# Altium footprint library Metal Screening Box.PcbLib: 38 footprints (part 3 of 3)
Each footprint in its own frame and in the unit in brackets; x right, y up, seen from the top. Pads: shape width x height; smd on the part's side, far side on the other; paste and mask are expansions set on the pad; w line width, h text height; cw(c..) or ccw(c..) is an arc to the next point about the centre after c.
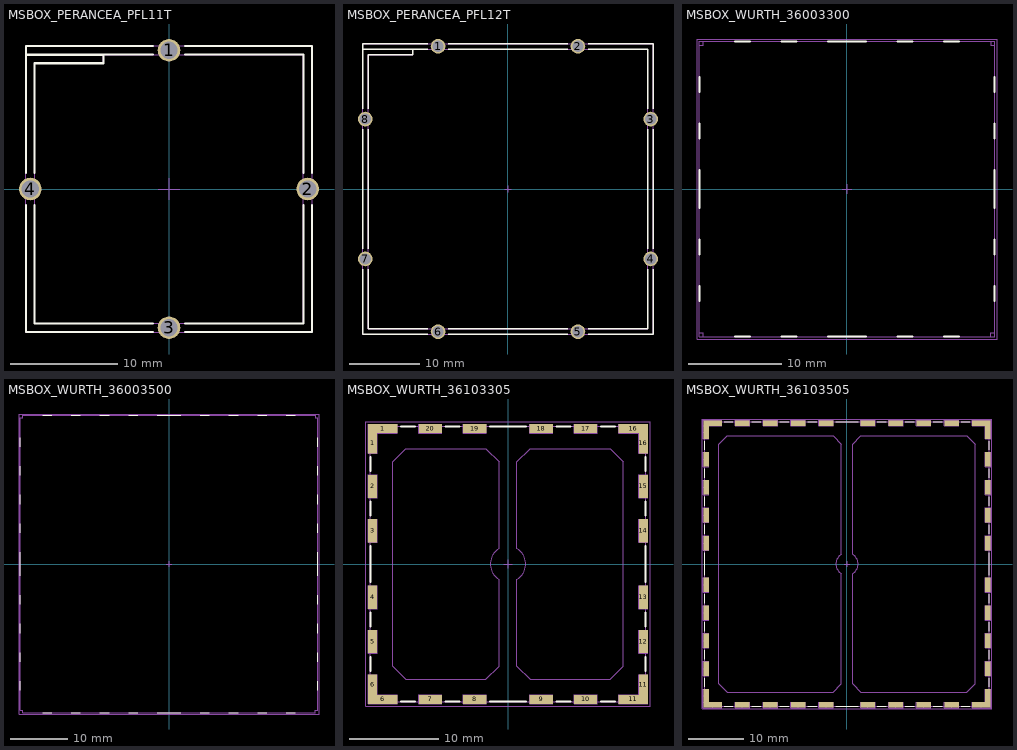
[diagram p2: the footprints below, top view; thin cyan lines are the x and y axes]

## MSBOX_PERANCEA_PFL11T [mm] "Metal Screening Box, Internal dimensions L25 x W25 x H10mm, Overall Size 30x30x11mm"
height 11
pads (4):
  round 2.1 hole 1.6: 1(0,12.9) 2(12.9,0) 3(0,-12.9) 4(-12.9,0)
Top Overlay:
  lines w0.2: -13.3,-1.5 -13.3,-13.3 -1.5,-13.3 ; -13.3,1.5 -13.3,12.45 -6.1,12.45 -6.1,11.7 -12.5,11.7 -12.5,1.5 ; -12.5,-1.5 -12.5,-12.5 -1.5,-12.5 ; -1.5,12.5 -13.3,12.5 ; -1.5,13.3 -13.3,13.3 ; 1.5,-13.3 13.3,-13.3 13.3,-1.5 ; 1.5,-12.5 12.5,-12.5 12.5,-1.5 ; 1.5,12.5 12.5,12.5 12.5,1.5 ; 1.5,13.3 13.3,13.3 13.3,1.5 ; -13.3,12.5 -13.3,13.3 ; -13.3,12.5 -13.3,13.3
Mechanical 8:
  lines w0.1: -13.9,0 -12.9,0 ; -12.9,-1 -12.9,0 ; -12.9,1 -12.9,0 ; -11.9,0 -12.9,0 ; -1,-12.9 0,-12.9 ; -1,0 0,0 ; -1,12.9 0,12.9 ; 0,-13.9 0,-12.9 ; 0,-11.9 0,-12.9 ; 0,-1 0,0 ; 0,1 0,0 ; 0,11.9 0,12.9 ; 0,13.9 0,12.9 ; 1,-12.9 0,-12.9 ; 1,0 0,0 ; 1,12.9 0,12.9 ; 11.9,0 12.9,0 ; 12.9,-1 12.9,0 ; 12.9,1 12.9,0 ; 13.9,0 12.9,0
Mechanical 14:
  lines w0.1: -13.3,12.5 -13.3,13.3 ; -13.3,12.5 12.5,12.5 12.5,-12.5 -12.5,-12.5 -12.5,11.7 -6.1,11.7 -6.1,12.45 -13.3,12.45 -13.3,-13.3 13.3,-13.3 13.3,13.3 -13.3,13.3 ; -13.3,12.5 -13.3,13.3
3D body "MSBOX_PERANCEA_PFL11T.stp": height 11, standoff -2.25, extent -14.72,-14.72 14.72,14.709

## MSBOX_PERANCEA_PFL12T [mm] "Metal Screening Box, Internal dimensions L40 x W40 x H15mm, Overall Size 45x45x16mm"
height 16
pads (8):
  round 2.1 hole 1.6: 1(-10,20.4) 2(10,20.4) 3(20.4,10) 4(20.4,-10) 5(10,-20.4) 6(-10,-20.4) 7(-20.4,-10) 8(-20.4,10)
Top Overlay:
  lines w0.2: -20.8,-11.446 -20.8,-20.8 -11.446,-20.8 ; -20.8,-8.554 -20.8,8.554 ; -20.8,11.446 -20.8,20.8 -11.446,20.8 ; -20.8,19.95 -13.6,19.95 -13.6,19.2 -20,19.2 -20,11.446 ; -20.8,20 -11.446,20 ; -20,-11.446 -20,-20 -11.446,-20 ; -20,-8.554 -20,8.554 ; -8.554,-20.8 8.554,-20.8 ; -8.554,-20 8.554,-20 ; -8.554,20 8.554,20 ; -8.554,20.8 8.554,20.8 ; 11.446,-20.8 20.8,-20.8 20.8,-11.446 ; 11.446,-20 20,-20 20,-11.446 ; 11.446,20 20,20 20,11.446 ; 11.446,20.8 20.8,20.8 20.8,11.446 ; 20,-8.554 20,8.554 ; 20.8,-8.554 20.8,8.554
Mechanical 8:
  lines w0.1: -0.5,0 0,0 ; 0,-0.5 0,0 ; 0,0.5 0,0 ; 0.5,0 0,0 ; -20.4,-10 -20.4,-10.5 -20.4,-10 ; -20.4,-10 -19.9,-10 -20.4,-10 ; -20.4,-10 -20.4,-9.5 -20.4,-10 ; -20.4,-10 -20.9,-10 -20.4,-10 ; -20.4,10 -20.4,9.5 -20.4,10 ; -20.4,10 -19.9,10 -20.4,10 ; -20.4,10 -20.4,10.5 -20.4,10 ; -20.4,10 -20.9,10 -20.4,10 ; -10,-20.4 -10,-20.9 -10,-20.4 ; -10,-20.4 -9.5,-20.4 -10,-20.4 ; -10,-20.4 -10,-19.9 -10,-20.4 ; -10,-20.4 -10.5,-20.4 -10,-20.4 ; -10,20.4 -10,19.9 -10,20.4 ; -10,20.4 -9.5,20.4 -10,20.4 ; -10,20.4 -10,20.9 -10,20.4 ; -10,20.4 -10.5,20.4 -10,20.4 ; 10,-20.4 10,-20.9 10,-20.4 ; 10,-20.4 10.5,-20.4 10,-20.4 ; 10,-20.4 10,-19.9 10,-20.4 ; 10,-20.4 9.5,-20.4 10,-20.4 ; 10,20.4 10,19.9 10,20.4 ; 10,20.4 10.5,20.4 10,20.4 ; 10,20.4 10,20.9 10,20.4 ; 10,20.4 9.5,20.4 10,20.4 ; 20.4,-10 20.4,-10.5 20.4,-10 ; 20.4,-10 20.9,-10 20.4,-10 ; 20.4,-10 20.4,-9.5 20.4,-10 ; 20.4,-10 19.9,-10 20.4,-10 ; 20.4,10 20.4,9.5 20.4,10 ; 20.4,10 20.9,10 20.4,10 ; 20.4,10 20.4,10.5 20.4,10 ; 20.4,10 19.9,10 20.4,10
Mechanical 14:
  lines w0.1: -20.8,19.95 -13.6,19.95 -13.6,19.2 -20,19.2 -20,-20 20,-20 20,20 -20.8,20 ; -20.8,-20.8 -20.8,20.8 20.8,20.8 20.8,-20.8 -20.8,-20.8
3D body "MSBOX_PERANCEA_PFL12T.stp": height 15.8, standoff -2.25, extent -22.22,-22.22 22.22,22.22

## MSBOX_WURTH_36003300 [mm] "Top Cover For 30 x 30mm WE-SHC Shielding Cabinet"
height 3.1
Top Overlay:
  lines w0.2: -15.9,-12.05 -15.9,-10.45 ; -15.9,-7.05 -15.9,-5.45 ; -15.9,-2.05 -15.9,2.05 ; -15.9,5.45 -15.9,7.05 ; -15.9,10.45 -15.9,12.05 ; -12.05,-15.9 -10.45,-15.9 ; -12.05,15.9 -10.45,15.9 ; -7.05,-15.9 -5.45,-15.9 ; -7.05,15.9 -5.45,15.9 ; -2.05,-15.9 2.05,-15.9 ; -2.05,15.9 2.05,15.9 ; 5.45,-15.9 7.05,-15.9 ; 5.45,15.9 7.05,15.9 ; 10.45,-15.9 12.05,-15.9 ; 10.45,15.9 12.05,15.9 ; 15.9,-12.05 15.9,-10.45 ; 15.9,-7.05 15.9,-5.45 ; 15.9,-2.05 15.9,2.05 ; 15.9,5.45 15.9,7.05 ; 15.9,10.45 15.9,12.05
Mechanical 8:
  lines w0.1: -0.5,0 0,0 ; 0,-0.5 0,0 ; 0,0.5 0,0 ; 0.5,0 0,0
Mechanical 14:
  lines w0.1: -15.9,-15.5 -15.5,-15.5 -15.5,-15.9 ; -15.9,15.5 -15.5,15.5 -15.5,15.9 ; 15.5,-15.9 15.5,-15.5 15.9,-15.5 ; 15.5,15.9 15.5,15.5 15.9,15.5 ; -15.9,-15.9 15.9,-15.9 15.9,15.9 -15.9,15.9 -15.9,-15.9
Mechanical 15:
  lines w0.05: -16.15,-16.15 16.15,-16.15 16.15,16.15 -16.15,16.15 -16.15,-16.15
3D body "MSBOX_WURTH_36003300.stp": height 3.9, standoff 0.6, extent -15.9,-15.9 15.9,15.9

## MSBOX_WURTH_36003500 [mm] "Top Cover For 50 x 50mm WE-SHC Shielding Cabinet"
height 3.1
Top Overlay:
  lines w0.2: -25.9,-22.05 -25.9,-20.45 ; -25.9,-17.05 -25.9,-15.45 ; -25.9,-12.05 -25.9,-10.45 ; -25.9,-7.05 -25.9,-5.45 ; -25.9,-2.05 -25.9,2.05 ; -25.9,5.45 -25.9,7.05 ; -25.9,10.45 -25.9,12.05 ; -25.9,15.45 -25.9,17.05 ; -25.9,20.45 -25.9,22.05 ; -22.05,-25.9 -20.45,-25.9 ; -22.05,25.9 -20.45,25.9 ; -17.05,-25.9 -15.45,-25.9 ; -17.05,25.9 -15.45,25.9 ; -12.05,-25.9 -10.45,-25.9 ; -12.05,25.9 -10.45,25.9 ; -7.05,-25.9 -5.45,-25.9 ; -7.05,25.9 -5.45,25.9 ; -2.05,-25.9 2.05,-25.9 ; -2.05,25.9 2.05,25.9 ; 5.45,-25.9 7.05,-25.9 ; 5.45,25.9 7.05,25.9 ; 10.45,-25.9 12.05,-25.9 ; 10.45,25.9 12.05,25.9 ; 15.45,-25.9 17.05,-25.9 ; 15.45,25.9 17.05,25.9 ; 20.45,-25.9 22.05,-25.9 ; 20.45,25.9 22.05,25.9 ; 25.9,-22.05 25.9,-20.45 ; 25.9,-17.05 25.9,-15.45 ; 25.9,-12.05 25.9,-10.45 ; 25.9,-7.05 25.9,-5.45 ; 25.9,-2.05 25.9,2.05 ; 25.9,5.45 25.9,7.05 ; 25.9,10.45 25.9,12.05 ; 25.9,15.45 25.9,17.05 ; 25.9,20.45 25.9,22.05
Mechanical 8:
  lines w0.1: -0.5,0 0,0 ; 0,-0.5 0,0 ; 0,0.5 0,0 ; 0.5,0 0,0
Mechanical 14:
  lines w0.1: -25.9,-25.5 -25.5,-25.5 -25.5,-25.9 25.5,-25.9 25.5,-25.5 25.9,-25.5 25.9,25.5 25.5,25.5 25.5,25.9 -25.5,25.9 -25.5,25.5 -25.9,25.5 -25.9,-25.5
Mechanical 15:
  lines w0.05: -26.15,-26.15 26.15,-26.15 26.15,26.15 -26.15,26.15 -26.15,-26.15
3D body "MSBOX_WURTH_36003500.stp": height 3.9, standoff 0.6, extent -25.9,-25.9 25.9,25.9

## MSBOX_WURTH_36103305 [mm] "Shielding Cabinet SMD-Frame WE-SHC, Internal Dimensions 30 x 30mm"
height 3.1
pads (24):
  rect 1x2.3 smd: 1(-15.25,13.6) 6(-15.25,-13.6) 11(15.25,-13.6) 16(15.25,13.6)
  rect 3.3x1 smd: 1(-14.1,15.25) 6(-14.1,-15.25) 11(14.1,-15.25) 16(14.1,15.25)
  rect 1x2.6 smd: 2(-15.25,8.75) 3(-15.25,3.75) 4(-15.25,-3.75) 5(-15.25,-8.75) 12(15.25,-8.75) 13(15.25,-3.75) 14(15.25,3.75) 15(15.25,8.75)
  rect 2.6x1 smd: 7(-8.75,-15.25) 8(-3.75,-15.25) 9(3.75,-15.25) 10(8.75,-15.25) 17(8.75,15.25) 18(3.75,15.25) 19(-3.75,15.25) 20(-8.75,15.25)
Top Overlay:
  lines w0.2: -15.5,-12.05 -15.5,-10.45 ; -15.5,-7.05 -15.5,-5.45 ; -15.5,-2.05 -15.5,2.05 ; -15.5,5.45 -15.5,7.05 ; -15.5,10.45 -15.5,12.05 ; -12.05,-15.5 -10.45,-15.5 ; -12.05,15.5 -10.45,15.5 ; -7.05,-15.5 -5.45,-15.5 ; -7.05,15.5 -5.45,15.5 ; -2.05,-15.5 2.05,-15.5 ; -2.05,15.5 2.05,15.5 ; 5.45,-15.5 7.05,-15.5 ; 5.45,15.5 7.05,15.5 ; 10.45,-15.5 12.05,-15.5 ; 10.45,15.5 12.05,15.5 ; 15.5,-12.05 15.5,-10.45 ; 15.5,-7.05 15.5,-5.45 ; 15.5,-2.05 15.5,2.05 ; 15.5,5.45 15.5,7.05 ; 15.5,10.45 15.5,12.05
Mechanical 8:
  drawing of 208 lines, arcs and shapes, not listed
Mechanical 14:
  lines w0.1: -15.5,-15.5 -15.5,15.5 15.5,15.5 15.5,-15.5 -15.5,-15.5
Mechanical 15:
  lines w0.05: -16,-16 16,-16 16,16 -16,16 -16,-16
3D body "MSBOX_WURTH_36103305.stp": height 3.5, standoff 0, extent -15.5,-15.5 15.5,15.5

## MSBOX_WURTH_36103505 [mm] "Shielding Cabinet SMD-Frame WE-SHC, Internal Dimensions 50 x 50mm"
height 3.1
pads (40):
  rect 1x2.3 smd: 1(-25.25,23.6) 10(-25.25,-23.6) 19(25.25,-23.6) 28(25.25,23.6)
  rect 3.3x1 smd: 1(-24.1,25.25) 10(-24.1,-25.25) 19(24.1,-25.25) 28(24.1,25.25)
  rect 1x2.6 smd: 2(-25.25,18.75) 3(-25.25,13.75) 4(-25.25,8.75) 5(-25.25,3.75) 6(-25.25,-3.75) 7(-25.25,-8.75) 8(-25.25,-13.75) 9(-25.25,-18.75) 20(25.25,-18.75) 21(25.25,-13.75) 22(25.25,-8.75) 23(25.25,-3.75) 24(25.25,3.75) 25(25.25,8.75) 26(25.25,13.75) 27(25.25,18.75)
  rect 2.6x1 smd: 11(-18.75,-25.25) 12(-13.75,-25.25) 13(-8.75,-25.25) 14(-3.75,-25.25) 15(3.75,-25.25) 16(8.75,-25.25) 17(13.75,-25.25) 18(18.75,-25.25) 29(18.75,25.25) 30(13.75,25.25) 31(8.75,25.25) 32(3.75,25.25) 33(-3.75,25.25) 34(-8.75,25.25) 35(-13.75,25.25) 36(-18.75,25.25)
Top Overlay:
  lines w0.2: -25.5,-22.05 -25.5,-20.45 ; -25.5,-17.05 -25.5,-15.45 ; -25.5,-12.05 -25.5,-10.45 ; -25.5,-7.05 -25.5,-5.45 ; -25.5,-2.05 -25.5,2.05 ; -25.5,5.45 -25.5,7.05 ; -25.5,10.45 -25.5,12.05 ; -25.5,15.45 -25.5,17.05 ; -25.5,20.45 -25.5,22.05 ; -22.05,-25.5 -20.45,-25.5 ; -22.05,25.5 -20.45,25.5 ; -17.05,-25.5 -15.45,-25.5 ; -17.05,25.5 -15.45,25.5 ; -12.05,-25.5 -10.45,-25.5 ; -12.05,25.5 -10.45,25.5 ; -7.05,-25.5 -5.45,-25.5 ; -7.05,25.5 -5.45,25.5 ; -2.05,-25.5 2.05,-25.5 ; -2.05,25.5 2.05,25.5 ; 5.45,-25.5 7.05,-25.5 ; 5.45,25.5 7.05,25.5 ; 10.45,-25.5 12.05,-25.5 ; 10.45,25.5 12.05,25.5 ; 15.45,-25.5 17.05,-25.5 ; 15.45,25.5 17.05,25.5 ; 20.45,-25.5 22.05,-25.5 ; 20.45,25.5 22.05,25.5 ; 25.5,-22.05 25.5,-20.45 ; 25.5,-17.05 25.5,-15.45 ; 25.5,-12.05 25.5,-10.45 ; 25.5,-7.05 25.5,-5.45 ; 25.5,-2.05 25.5,2.05 ; 25.5,5.45 25.5,7.05 ; 25.5,10.45 25.5,12.05 ; 25.5,15.45 25.5,17.05 ; 25.5,20.45 25.5,22.05
Mechanical 8:
  drawing of 336 lines, arcs and shapes, not listed
Mechanical 14:
  lines w0.1: -25.5,-25.5 25.5,-25.5 25.5,25.5 -25.5,25.5 -25.5,-25.5
Mechanical 15:
  lines w0.05: -26,-26 -26,26 26,26 26,-26 -26,-26
3D body "MSBOX_WURTH_36103505.stp": height 3.5, standoff 0, extent -25.5,-25.5 25.5,25.5